# Altium footprint library PCB_Components.PcbLib: 38 footprints (part 1 of 3)
Each footprint in its own frame and in the unit in brackets; x right, y up, seen from the top. Pads: shape width x height; smd on the part's side, far side on the other; paste and mask are expansions set on the pad; w line width, h text height; cw(c..) or ccw(c..) is an arc to the next point about the centre after c.
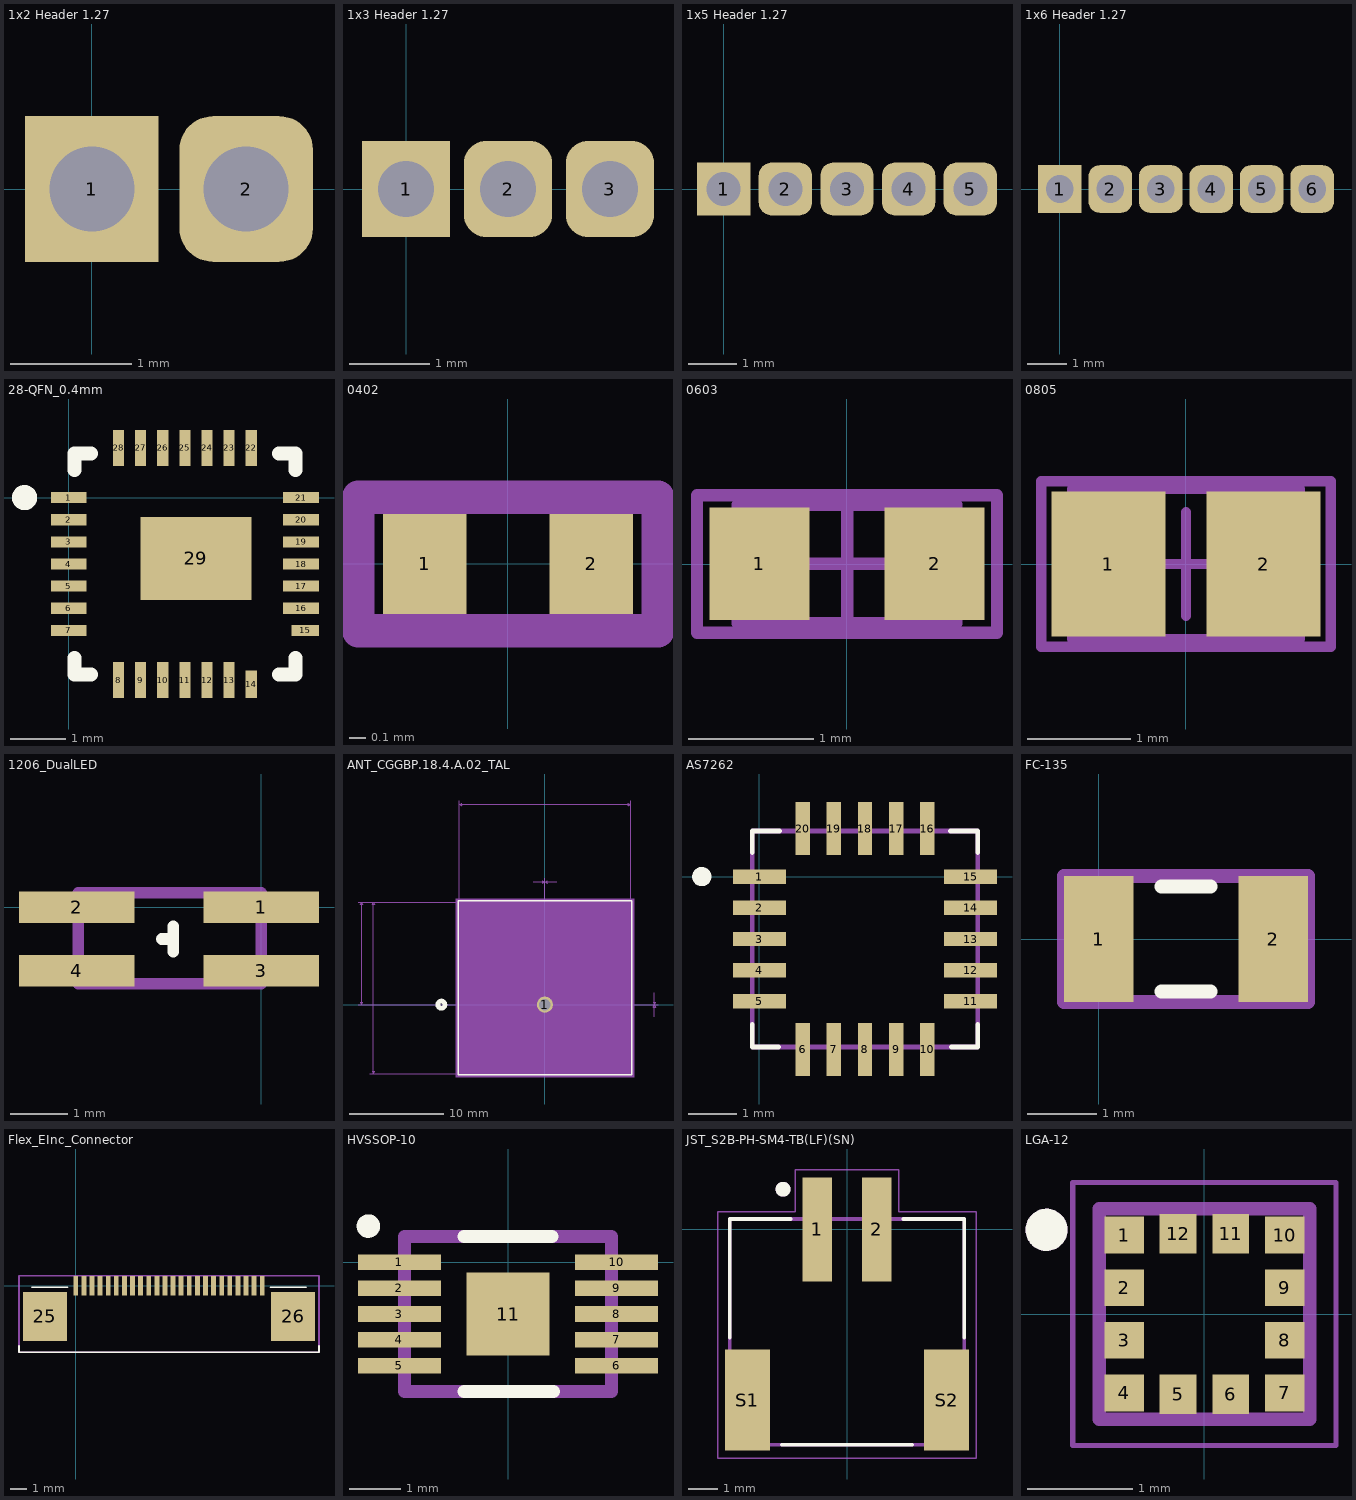
[diagram p0: the footprints below, top view; thin cyan lines are the x and y axes]

## 1x2 Header 1.27 [mm]
pads (2):
  rect 1.1x1.2 hole 0.7 paste+0 mask+0: 1(0,0)
  rrect50% 1.1x1.2 hole 0.7 paste+0 mask+0: 2(1.27,0)

## 1x3 Header 1.27 [mm]
pads (3):
  rect 1.1x1.2 hole 0.7 paste+0 mask+0: 1(0,0)
  rrect50% 1.1x1.2 hole 0.7 paste+0 mask+0: 2(1.27,0) 3(2.54,0)

## 1x5 Header 1.27 [mm]
pads (5):
  rect 1.1x1.1 hole 0.7 paste+0 mask+0: 1(0,0)
  rrect50% 1.1x1.1 hole 0.7 paste+0 mask+0: 2(1.27,0) 3(2.54,0) 4(3.81,0) 5(5.08,0)

## 1x6 Header 1.27 [mm]
pads (6):
  rect 1.1x1.2 hole 0.7 paste+0 mask+0: 1(0,0)
  rrect50% 1.1x1.2 hole 0.7 paste+0 mask+0: 2(1.27,0) 3(2.54,0) 4(3.81,0) 5(5.08,0) 6(6.35,0)

## 28-QFN_0.4mm [mm]
pads (29):
  rect 0.65x0.2 smd mask+0.05: 1(0,0) 2(0,-0.4) 3(0,-0.8) 4(0,-1.2) 5(0,-1.6) 6(0,-2) 7(0,-2.4) 16(4.2,-2) 17(4.2,-1.6) 18(4.2,-1.2) 19(4.2,-0.8) 20(4.2,-0.4) 21(4.2,0)
  rect 0.2x0.65 smd mask+0.05: 8(0.9,-3.3) 9(1.3,-3.3) 10(1.7,-3.3) 11(2.1,-3.3) 12(2.5,-3.3) 13(2.9,-3.3) 22(3.3,0.9) 23(2.9,0.9) 24(2.5,0.9) 25(2.1,0.9) 26(1.7,0.9) 27(1.3,0.9) 28(0.9,0.9)
  rect 0.2x0.5 smd mask+0.05: 14(3.3,-3.375)
  rect 0.5x0.2 smd mask+0.05: 15(4.275,-2.4)
  rect 2x1.5 smd mask+0.05: 29(2.3,-1.1)
Top Overlay:
  circle w0.254: c-0.8,0 r0.1
  lines w0.254: 0.1,-2.9 0.1,-3.2 0.4,-3.2 ; 0.1,0.5 0.1,0.8 0.4,0.8 ; 3.8,-3.2 4.1,-3.2 4.1,-2.9 ; 3.8,0.8 4.1,0.8 4.1,0.5
3D body "User Library-QFN28-0_4.STEP": height 0.75, standoff 0, extent 0.1,-3.2 4.1,0.8

## 0402 [mm]
pads (2):
  rect 0.5x0.6 smd mask+0.05: 1(-0.5,0) 2(0.5,0)
RefDes Top:
  lines w0.2: -0.9,-0.4 0.9,-0.4 0.9,0.4 -0.9,0.4 -0.9,-0.4
Component out-line:
  lines w0.2: -0.9,-0.4 -0.9,0.4 0.9,0.4 0.9,-0.4 -0.9,-0.4
3D body "User Library-d0402h025.STEP": height 0.25, standoff 0, extent -0.5,-0.25 0.5,0.25

## 0603 [mm] "0603 footprint"
height 1.3
pads (2):
  rect 0.8x0.9 smd: 1(-0.7,0) 2(0.7,0)
Assembly Top:
  lines w0.1: -0.875,-0.475 -0.875,0.475 0.875,0.475 0.875,-0.475 -0.875,-0.475
Component out-line:
  lines w0.1: -0.475,0 0.475,0 ; 0,-0.475 0,0.475 ; -1.2,-0.55 -1.2,0.55 1.2,0.55 1.2,-0.55 -1.2,-0.55
3D body "CircuitWorks-RESISTOR 0603.STEP": height 0.48, standoff -0.03, extent -0.8,-0.43 0.8,0.43

## 0805 [mm] "Chip Capacitor, Body 2.0x1.3mm, IPC High Density"
height 1.4
pads (2):
  rect 1.1x1.4 smd: 1(-0.75,0) 2(0.75,0)
Assembly Top:
  lines w0.1: -1.1,-0.725 1.1,-0.725 1.1,0.725 -1.1,0.725 -1.1,-0.725
Component out-line:
  lines w0.1: -0.5,0 0.5,0 ; 0,-0.5 0,0.5 ; -1.4,-0.8 1.4,-0.8 1.4,0.8 -1.4,0.8 -1.4,-0.8
3D body: height 1.4, standoff 0, extent -1.1,-0.725 1.1,0.725

## 1206_DualLED [mm] "Red green Led"
pads (4):
  rect 2x0.55 smd mask+0.05: 1(0,0) 2(-3.2,0) 3(0,-1.1) 4(-3.2,-1.1)
Top Overlay:
  lines w0.2: -1.725,-0.55 -1.525,-0.55 ; -1.525,-0.775 -1.525,-0.325
RefDes Top:
  lines w0.2: -3.175,-1.325 -3.175,0.25 0,0.25 0,-1.325 -3.175,-1.325
Component out-line:
  lines w0.2: -3.175,-1.325 -3.175,0.25 0,0.25 0,-1.325 -3.175,-1.325
3D body "User Library-LED1206R.STEP": height 1.11, standoff -0.4, extent -3.2,-1.35 0,0.25

## ANT_CGGBP.18.4.A.02_TAL [mil]
pads (1):
  round 68 hole 48 mask+0: 1(0,0)
Top Overlay:
  circle w20: c-435,0 r15
  lines w6: -365,-294.13 365,-294.13 365,435.87 -365,435.87 -365,-294.13
Bottom Overlay:
  circle w20: c-435,0 r15
Mechanical 5:
  region: -375,445.87 375,445.87 375,-304.13 -375,-304.13
Mechanical 7:
  lines w1: -785,0 0,0 ; -785,430.87 -360,430.87 ; -735,-289.13 -360,-289.13 ; -735,430.87 -360,430.87 ; -360,855.87 -360,430.87 ; -50,515.87 0,515.87 ; 50,515.87 0,515.87 ; 360,430.87 360,855.87 ; 460,-50 460,0 ; 460,50 460,0 ; -770,0 -770,430.87 ; -770,0 -775,10 -765,10 -770,0 ; -770,430.87 -775,420.87 -765,420.87 -770,430.87 ; -720,-289.13 -720,430.87 ; -720,-289.13 -725,-279.13 -715,-279.13 -720,-289.13 ; -720,430.87 -725,420.87 -715,420.87 -720,430.87 ; -360,840.87 360,840.87 ; -360,840.87 -350,845.87 -350,835.87 -360,840.87 ; 0,0 0,530.87 0,0 ; 0,0 475,0 0,0 ; 0,515.87 -10,520.87 -10,510.87 0,515.87 ; 0,515.87 10,520.87 10,510.87 0,515.87 ; 360,840.87 350,845.87 350,835.87 360,840.87 ; 460,0 455,10 465,10 460,0 ; 460,0 455,-10 465,-10 460,0
  text "Default Padstyle: c173h122" at -325,-449.13 h50
  text "1st Mtg Padstyle: r203_279h127" at -375,-524.13 h50
  text "2nd Mtg Padstyle: r127_254h102" at -375,-599.13 h50
  text "3rd Mtg Padstyle: r254_127h102" at -375,-674.13 h50
  text "Left Mtg Padstyle: r127_254h76" at -375,-749.13 h50
  text "Right Mtg Padstyle: r127_254h76" at -387.5,-824.13 h50
  text "Alt Padstyle 1: b152_229h76" at -337.5,-899.13 h50
  text "Alt Padstyle 2: b229_152h76" at -337.5,-974.13 h50
  text "0in/0mm" at -43.75,535.87 h25
  text "0.72in/18.288mm" at -93.75,860.87 h25
  text "0in/0mm" at 480,-12.5 h25
  text "0.431in/10.944mm" at -990,202.93 h25
  text "0.72in/18.288mm" at -927.5,58.37 h25
Assembly Top:
  circle w20: c0,75 r15
  lines w1: -360,-289.13 360,-289.13 360,430.87 -360,430.87 -360,-289.13
Component out-line:
  region: 370,440.87 -370,440.87 -370,-299.13 370,-299.13
  lines w6: -370,-299.13 -370,440.87 370,440.87 370,-299.13 -370,-299.13
3D body: height 10, standoff 0, extent 0,0 10,10

## AS7262 [mm]
pads (20):
  rect 1.1x0.3 smd mask+0.05: 1(0,0) 2(0,-0.65) 3(0,-1.3) 4(0,-1.95) 5(0,-2.6) 11(4.4,-2.6) 12(4.4,-1.95) 13(4.4,-1.3) 14(4.4,-0.65) 15(4.4,0)
  rect 0.3x1.1 smd mask+0.05: 6(0.9,-3.6) 7(1.55,-3.6) 8(2.2,-3.6) 9(2.85,-3.6) 10(3.5,-3.6) 16(3.5,1) 17(2.85,1) 18(2.2,1) 19(1.55,1) 20(0.9,1)
Top Overlay:
  circle w0.2: c-1.2,0 r0.1
  lines w0.1: -0.15,-3.075 -0.15,-3.55 0.4,-3.55 ; -0.15,0.5 -0.15,0.95 0.425,0.95 ; 3.975,0.95 4.55,0.95 4.55,0.5 ; 4,-3.55 4.55,-3.55 4.55,-3.075
RefDes Top:
  lines w0.1: -0.15,-3.55 -0.15,0.95 4.55,0.95 4.55,-3.55 -0.15,-3.55
Component out-line:
  lines w0.1: -0.15,-3.55 -0.15,0.95 4.55,0.95 4.55,-3.55 -0.15,-3.55
3D body "User Library-AS7262.STEP": height 2.6, standoff -0.05, extent -0.15,-3.55 4.55,0.95

## FC-135 [mm] "32.768 KHz Oscillator"
pads (2):
  rect 1x1.8 smd mask+0.05: 1(0,0) 2(2.5,0)
Top Overlay:
  lines w0.2: 0.9,-0.75 1.6,-0.75 ; 0.9,0.75 1.6,0.75
RefDes Top:
  lines w0.2: -0.5,-0.9 3,-0.9 3,0.9 -0.5,0.9 -0.5,-0.9
Component out-line:
  lines w0.2: -0.5,-0.9 3,-0.9 3,0.9 -0.5,0.9 -0.5,-0.9
3D body "User Library-Crystal FC-135.STEP": height 0.8, standoff 0, extent -0.35,-0.75 2.85,0.75

## Flex_EInc_Connector [mm]
pads (26):
  rect 0.3x1.2 smd mask+0.05: 1(0,0) 2(0.5,0) 3(1,0) 4(1.5,0) 5(2,0) 6(2.5,0) 7(3,0) 8(3.5,0) 9(4,0) 10(4.5,0) 11(5,0) 12(5.5,0) 13(6,0) 14(6.5,0) 15(7,0) 16(7.5,0) 17(8,0) 18(8.5,0) 19(9,0) 20(9.5,0) 21(10,0) 22(10.5,0) 23(11,0) 24(11.5,0)
  rect 2.7x3 smd mask+0.05: 25(-1.9,-1.9) 26(13.4,-1.9)
Top Overlay:
  lines w0.1: -3.5,-3.7 -3.5,-4.1 15,-4.1 15,-3.7 ; -2.7,-0.1 -0.5,-0.1 ; 12,-0.1 14.2,-0.1
RefDes Top:
  lines w0.1: -3.5,-4.1 -3.5,0.6 15,0.6 15,-4.1 -3.5,-4.1
Component out-line:
  lines w0.1: -3.5,-4.1 15,-4.1 15,0.6 -3.5,0.6 -3.5,-3.5 -3.5,-4.1

## HVSSOP-10 [mm]
pads (11):
  rect 1.6x0.3 smd mask+0.05: 1(-2.1,0) 2(-2.1,-0.5) 3(-2.1,-1) 4(-2.1,-1.5) 5(-2.1,-2) 6(2.1,-2) 7(2.1,-1.5) 8(2.1,-1) 9(2.1,-0.5) 10(2.1,0)
  rect 1.6x1.6 smd mask+0.05: 11(0,-1)
Top Overlay:
  circle w0.254: c-2.7,0.7 r0.1
  lines w0.254: -0.85,-2.5 0.875,-2.5 ; -0.85,0.5 0.85,0.5
RefDes Top:
  lines w0.254: -2,-2.5 2,-2.5 2,0.5 -2,0.5 -2,-2.5
Component out-line:
  lines w0.254: -2,-2.5 2,-2.5 2,0.5 -2,0.5 -2,-2.5
3D body "User Library-DGS0010A.STEP": height 1.1, standoff 0, extent -2.463,-2.5 2.463,0.5

## JST_S2B-PH-SM4-TB(LF)(SN) [mm]
pads (4):
  rect 1x3.5 smd: 1(-1,0) 2(1,0)
  rect 1.5x3.4 smd: S1(-3.35,-5.75) S2(3.35,-5.75)
Top Overlay:
  circle w0.3: c-2.15,1.35 r0.1
  lines w0.127: -3.95,-3.65 -3.95,0.35 -1.9,0.35 ; -2.2,-7.25 2.2,-7.25 ; 1.9,0.35 3.95,0.35 3.95,-3.65
Assembly Top:
  circle w0.3: c-2.15,1.35 r0.1
  lines w0.127: -3.95,-7.25 3.95,-7.25 3.95,0.35 -3.95,0.35 -3.95,-7.25
Component out-line:
  lines w0.05: -4.35,-7.7 4.35,-7.7 4.35,0.6 1.75,0.6 1.75,2 -1.75,2 -1.75,0.6 -4.35,0.6 -4.35,-7.7
3D body "step_temp.STEP": height 5.5, standoff -0.1, extent -4.09,-7.221 3.81,1.379

## LGA-12 [mm]
pads (12):
  rect 0.375x0.35 smd: 1(-0.763,0.75) 2(-0.763,0.25) 3(-0.763,-0.25) 4(-0.763,-0.75) 7(0.763,-0.75) 8(0.763,-0.25) 9(0.763,0.25) 10(0.763,0.75)
  rect 0.35x0.375 smd: 5(-0.25,-0.763) 6(0.25,-0.763) 11(0.25,0.763) 12(-0.25,0.763)
Top Overlay:
  circle w0.2: c-1.5,0.8 r0.1
Assembly Top:
  circle w0.2: c-1.5,0.8 r0.1
  lines w0.127: -1,-1 1,-1 1,1 -1,1 -1,-1
Component out-line:
  lines w0.05: -1.25,-1.25 1.25,-1.25 1.25,1.25 -1.25,1.25 -1.25,-1.25
3D body "User Library-LIS2DW12.step": height 0.68, standoff -0.03, extent -1,-1.025 1,0.975